# Altium schematic symbol library RESET circuit.SCHLIB: 5 symbols
Pins are listed as number, name and electrical type; pins without a type are passive.

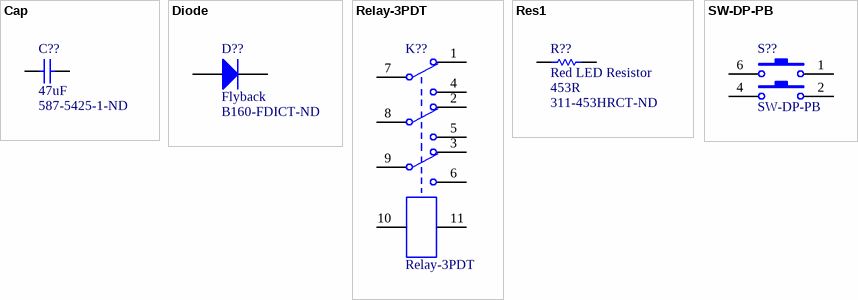
[diagram p0: symbols Cap to SW-DP-PB]

## Cap
designator C??  value 47uF  Supplier Part Number 1: 587-5425-1-ND  (hidden comment: Cap)
Capacitor; Published: 8-Jun-2000; LatestRevisionDate: 17-Jul-2002; LatestRevisionNote: Re-released for DXP Platform.; PackageReference: RAD-0.3; Publisher: Altium Limited; PackageDescription: Radial Cap, Thru-Hole; 2 Leads; 0.3 in Pin Spacing
footprint RAD-0.3 (Radial Cap, Thru-Hole; 2 Leads; 0.3 in Pin Spacing)
simulation model CAP (Capacitor)
signal-integrity model Cap
footprint 0603
footprint 1206 (High Density) (Panasonic 1206 Resistor)
pins: 1, 2

## Diode
designator D??, comment Flyback  Supplier Part Number 1: B160-FDICT-ND
Default Diode; Published: 8-Jun-2000; LatestRevisionDate: 17-Jul-2002; LatestRevisionNote: Re-released for DXP Platform.; PackageVersion: Sep-1996; PackageReference: SMC; Publisher: Altium Limited; PackageDescription: DO-214-AB/SMC; 2 C-Bend Leads; Body 7.9 x 5.9 mm, inc. leads (LxW); Code_JEDEC: DO-214-AB; Supplier 1: Digi-Key
footprint SOD-123 (Zener Diode)
simulation model DIODE (Diode)
signal-integrity model Diode
pins: 1 A, 2 K

## Relay-3PDT
designator K??
ComponentLink1Description: Manufacturer Link; ComponentLink2Description: Datasheet
footprint 55.13
pins: 1, 2, 3, 4, 5, 6, 7, 8, 9, 10, 11
1 alternate drawing of the same symbol

## Res1
designator R??, comment Red LED Resistor  value 453R  Supplier Part Number 1: 311-453HRCT-ND
Resistor; Published: 8-Jun-2000; LatestRevisionDate: 17-Jul-2002; LatestRevisionNote: Re-released for DXP Platform.; PackageReference: AXIAL-0.3; Publisher: Altium Limited; PackageDescription: Axial Device, Thru-Hole; 2 Leads; 0.3 in Pin Spacing; Supplier 1: Digi-Key
footprint 0603
simulation model RESISTOR (Resistor)
signal-integrity model Res
pins: 1, 2

## SW-DP-PB
designator S??
footprint DPST switch (CKN4044-ND switch)
pins: 1, 2, 4, 6